# Altium integrated library 833H-1C-C-5VDC.IntLib: 1 symbol
Pins are listed as number, name and electrical type; pins without a type are passive.

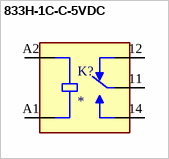
[diagram p0: symbol 833H-1C-C-5VDC]

## 833H-1C-C-5VDC
designator K?
General Purpose Relays 10A 5VDC SPDT, Flux Sugar Cube; MF: Song Chuan; MP: 833H-1C-C-5VDC; SnapEDA_Link: https://www.snapeda.com/parts/833H-1C-C-5VDC/Song+Chuan/view-part/?ref=snap; Package: None; Value: *; Check_prices: https://www.snapeda.com/parts/833H-1C-C-5VDC/Song+Chuan/view-part/?ref=eda
footprint RELAY_833H-1C-C-5VDC
pins: 11 COM, 12 NC, 14 NO, A1 COIL2, A2 COIL1